# Altium schematic symbol library Trans_ETD29_2.SchLib: 1 symbol
Pins are listed as number, name and electrical type; pins without a type are passive.

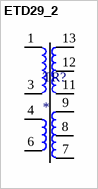
[diagram p0: symbol ETD29_2]

## ETD29_2
designator TR?
footprint TRANS_ETD_29
footprint ETD29_Transformer
footprint ETD29_Transformer_2
pins: 1, 3, 4, 6, 7, 8, 9, 11, 12, 13